# EAGLE library part MC33HB2002 (library Bits_library_eagle 9x)
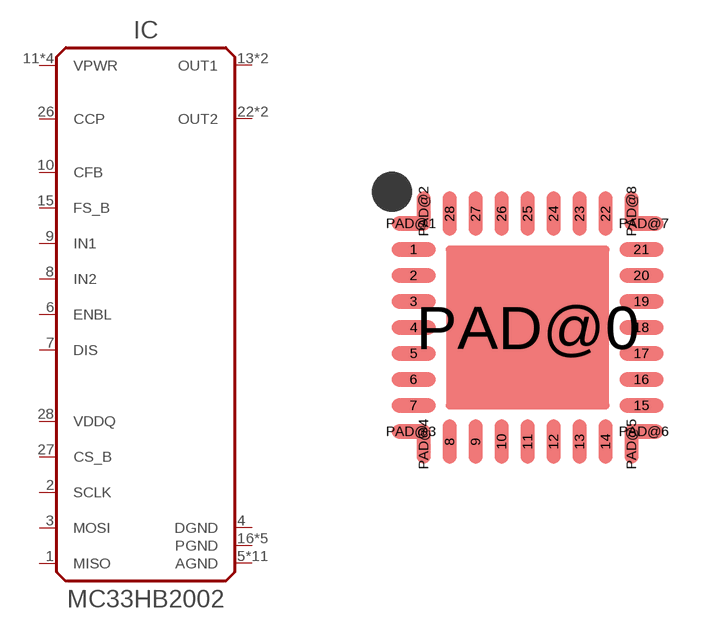
[diagram p60: symbol with the pads of HVQFN28; footprint HVQFN28]

Designator prefix IC

## MC33HB2002  [HVQFN28]
1  MISO
2  SCLK
3  MOSI
4  DGND  pwr
5  AGND  pwr
6  ENBL
7  DIS
8  IN2
9  IN1
10  CFB  pas
11  VPWR  pwr
12  VPWR  pwr
13  OUT1
14  OUT1
15  FS_B
16  PGND  pwr
17  PGND  pwr
18  PGND  pwr
19  PGND  pwr
20  PGND  pwr
21  AGND  pwr
22  OUT2
23  OUT2
24  VPWR  pwr
25  VPWR  pwr
26  CCP  pas
27  CS_B
28  VDDQ  pwr
PAD@0  AGND  pwr
PAD@1  AGND  pwr
PAD@2  AGND  pwr
PAD@3  AGND  pwr
PAD@4  AGND  pwr
PAD@5  AGND  pwr
PAD@6  AGND  pwr
PAD@7  AGND  pwr
PAD@8  AGND  pwr

## Footprint HVQFN28 (pad centres in mm)
smd 1.1 x 0.35: 1 -2.85,1.95; 2 -2.85,1.3; 3 -2.85,0.65; 4 -2.85,0; 5 -2.85,-0.65; 6 -2.85,-1.3; 7 -2.85,-1.95; 15 2.85,-1.95; 16 2.85,-1.3; 17 2.85,-0.65; 18 2.85,0; 19 2.85,0.65; 20 2.85,1.3; 21 2.85,1.95
smd 0.35 x 1.1: 8 -1.95,-2.85; 9 -1.3,-2.85; 10 -0.65,-2.85; 11 0,-2.85; 12 0.65,-2.85; 13 1.3,-2.85; 14 1.95,-2.85; 22 1.95,2.85; 23 1.3,2.85; 24 0.65,2.85; 25 0,2.85; 26 -0.65,2.85; 27 -1.3,2.85; 28 -1.95,2.85
smd 4.1 x 4.1: PAD@0 0,0
smd 0.975 x 0.35: PAD@1 -2.913,2.6; PAD@3 -2.913,-2.6; PAD@6 2.913,-2.6; PAD@7 2.913,2.6
smd 0.35 x 0.975: PAD@2 -2.6,2.913; PAD@4 -2.6,-2.913; PAD@5 2.6,-2.913; PAD@8 2.6,2.913